# Altium schematic symbol library Diodo.SchLib: 49 symbols (part 2 of 2)
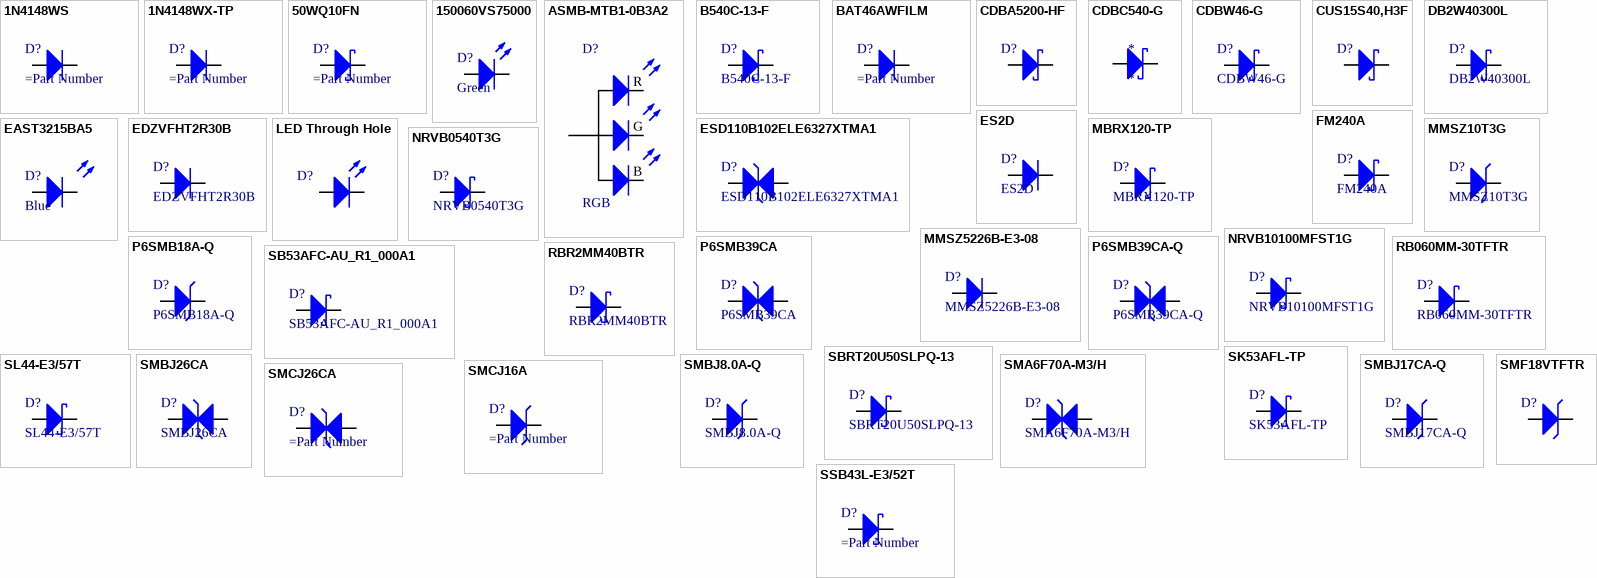
[diagram p2: symbols 1N4148WS to SSB43L-E3/52T]

## SSB43L-E3/52T
designator D?
DIODE SCHOTTKY 30V 4A DO-214AA; Manufacturer: Vishay; Manufacturer Part Number: SSB43L-E3/52T; Pirce: 1=0.54, 10=0.438, 100=0.358 [USD]; Max Forward Surge Current (Ifsm): 100 A; Current - Reverse Leakage @ Vr: 600 uA; Voltage - Forward (Vf) (Max) @ If: 450 mV; Library Control - Checked Footprint: Yes; Library Control - Person that Checked Footprint: Juliana; Supplier 1: Mouser; Category: Schottky Diodes; Package / Case: DO-214AA; Current - Average Rectified (Io): 4 A; Operating Temperature: -65°C ~+150°C; Voltage - DC Reverse (Vr) (Max): 30 V; Diode Type: Schottky; Library Ref: Diode; Supplier Part Number 1: 625-SSB43L-E3; Library Control - Checked Schematic: Yes; Library Control - Last Update: 12/08/2022; Library Control - Person that Checked Schematic: Juliana; Library Control - Person that did the Last Update Footprint: Juliana; Library Control - Person that did the Last Update Schematic: Juliana; Power Dissipation: *; Speed: *; Capacitance @ Vr, F: *; ComponentLink1Description: Mouser Link; ComponentLink1URL: https://br.mouser.com/ProductDetail/Vishay-General-Semiconductor/SSB43L-E3-52T?qs=x2jpVgRnAtN%252BZmsb%252BlLseQ%3D%3D; ComponentLink2Description: Datasheet; ComponentLink2URL: https://br.mouser.com/datasheet/2/427/ssb43l-1767997.pdf
footprint DIODO_DO-214AA
pins: A, C

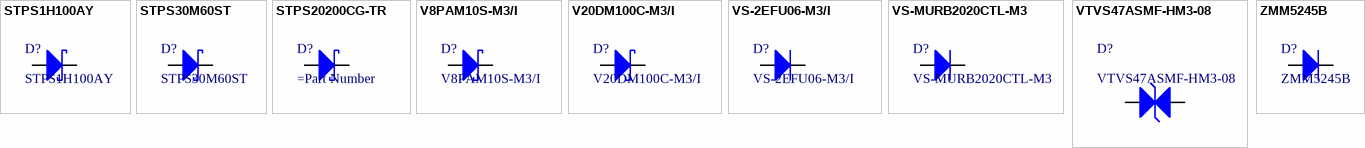
[diagram p1: symbols STPS1H100AY to ZMM5245B]

## STPS1H100AY
designator D?
DIODE SHCOTTKY 100V 1A DO-214AC; Manufacturer: STMicroelectronics; Configuration: Single; Vf - Forward Voltage: 770 mV; Ifsm - Forward Surge Current: 50 A; Ir - Reverse Current: 4 uA; Product Category: Schottky Diodes & Rectifiers; Product: Schottky Rectifiers; Mounting Style: SMD/SMT; Package / Case: SMA (DO-214AC); Technology: Si; If - Forward Current: 1 A; Vrrm - Repetitive Reverse Voltage: 100 V; Minimum Operating Temperature: - 40 C; Maximum Operating Temperature: + 150 C
footprint DIOM5436X24N (Molded Diode, 2-Leads, Body 5,35x3,63mm, IPC Medium Density)
pins: A, C

## STPS30M60ST
designator D?
DIODE SCHOTTKY 60V TO-220-3; Manufacturer: STMicroelectronics; Current - Average Rectified (Io): 90 A; Max Forward Surge Current (Ifsm): 600 A; Current - Reverse Leakage @ Vr: 25 mA; Voltage - Forward (Vf) (Max) @ If: 0,470 V; Diode Type: Schottky Diode; Library Control - Checked Footprint: yes; Library Control - Last Project that Used: Fujin-MK1; Library Control - Person that Checked Footprint: Guilherme; Supplier 1: Mouser; Part Number: STPS30M60ST; Category: Schottky Diodes & Rectifiers; Price: 1 = 1,74, 10 = 1,57, 100 = 1,27 (USD); Package / Case: TO-220-3; Operating Temperature: 150ºC; Voltage - DC Reverse (Vr) (Max): 60 V; Library Ref: Diode; Supplier Part Number 1: 511-STPS30M60ST; Library Control - Checked Schematic: yes; Library Control - Last Update: 31/10/2021 16:48; Library Control - Person that Checked Schematic: Guilherme; Library Control - Person that did the Last Update Footprint: Guilherme; Library Control - Person that did the Last Update Schematic: Guilherme; ComponentLink1Description: Mouser Link; ComponentLink1URL: https://br.mouser.com/ProductDetail/STMicroelectronics/STPS30M60ST?qs=G49gCGQm93g6yOTYlfi6VA%3D%3D; ComponentLink2Description: Datasheet; ComponentLink2URL: https://br.mouser.com/datasheet/2/389/dm00034932-1797540.pdf
footprint TO255P460X1020X2008-3P
pins: A, C

## STPS20200CG-TR
designator D?
DIODE SCHOTTKY 200V 20A D2PAK-2 (TO-263-2); Manufacturer: STMicroelectronics; Manufacturer Part Number: STPS20200CG-TR; Pirce: 1=3.66, 10=3.30, 100=2.70 [USD]; Current - Reverse Leakage @ Vr: 7mA; Voltage - Forward (Vf) (Max) @ If: 640mV; Diode Type: Schottky Diode; Library Control - Checked Footprint: Yes; Library Control - Person that Checked Footprint: Juliana; Supplier 1: Mouser; Category: Schottky Diode; Package / Case: D2PAK-2 (TO-263-2); Current - Average Rectified (Io): 20A; Operating Temperature: -40°C ~ +175°C; Max Forward Surge Current (Ifsm): 20A; Voltage - DC Reverse (Vr) (Max): 200V; Library Ref: Diode; Supplier Part Number 1: 511-STPS20200CG-TR; Library Control - Checked Schematic: Yes; Library Control - Last Update: 10/08/22; Library Control - Person that Checked Schematic: Juliana; Library Control - Person that did the Last Update Footprint: Juliana; Library Control - Person that did the Last Update Schematic: Juliana; Power Dissipation: *; Speed: *; Capacitance @ Vr, F: *; ComponentLink1Description: Mouser Link; ComponentLink1URL: https://www.mouser.com/ProductDetail/STMicroelectronics/STPS20200CG-TR?qs=DqCdCwOw4%2F7dmkq74KoADQ%3D%3D; ComponentLink2Description: Datasheet; ComponentLink2URL: https://www.mouser.com/datasheet/2/389/stps20200c-1851744.pdf
footprint D2PAK-2
pins: A, C

## V8PAM10S-M3/I
designator D?
DIODE SCHOTTKY 100V 8A DO-221BC; Manufacturer: Vishay; Max Forward Surge Current (Ifsm): 90 A; Current - Reverse Leakage @ Vr: 180mA @ 100V; Voltage - Forward (Vf) (Max) @ If: 840mV @ 8A; Library Control - Checked Footprint: Yes; Library Control - Person that Checked Footprint: Lucas; Library Control - Person that did the Last Update Schematic: Stéfany (Ster), Lucas; Capacitance @ Vr, F: 600pF @ 4V, 1MHz; Supplier 1: Mouser; Part Number: V8PAM10S-M3/I; Category: Schottky Diodes & Rectifiers; Price: 1 = 0.43; 10 = 0.372; 100 = 0.278; 500 = 0.218; 1000 = 0.169 (USD); Package / Case: DO-221BC; Current - Average Rectified (Io): 8 A; Operating Temperature: - 40ºC ~ +175ºC; Voltage - DC Reverse (Vr) (Max): 100V; Diode Type: Schottky; Library Ref: Diodo/Led; Supplier Part Number 1: 78-V8PAM10S-M3/I; Recovery Time: -; Library Control - Checked Schematic: Yes; Library Control - Last Update: 23/06/2021 16:00; Library Control - Person that Checked Schematic: Lucas; Library Control - Person that did the Last Update Footprint: -; Power Dissipation: -; Speed: -; ComponentLink1Description: Datasheet; ComponentLink1URL: https://www.vishay.com/docs/87013/v8pam10s.pdf; ComponentLink2Description: Mouser Link; ComponentLink2URL: https://br.mouser.com/ProductDetail/Vishay-General-Semiconductor/V8PAM10S-M3-I?qs=7MVldsJ5UaxN9yrxRnd0cA%3D%3D
footprint DIODO_DO221-BC
pins: A, C

## V20DM100C-M3/I
designator D?
DIODE SCHOTTKY 100V 20A TO-263AC-3; Manufacturer: Vishay; Max Forward Surge Current (Ifsm): 150 A; Current - Reverse Leakage @ Vr: 200 uA @ 100V; Voltage - Forward (Vf) (Max) @ If: 820 mV @ 10A; Library Control - Person that Checked Footprint: Pierre; Capacitance @ Vr, F: 950pF @ 4.0 V, 1 MHz; Supplier 1: Mouser; Part Number: V20DM100C-M3/I; Category: Schottky Diodes & Rectifiers; Price: 1= 1,35, 10= 1,22, 100= 0,947 (USD); Package / Case: TO-263AC-3; Current - Average Rectified (Io): 20 A; Operating Temperature: -40C ~ +175C; Voltage - DC Reverse (Vr) (Max): 100 V; Diode Type: Schottky; Library Ref: Diodo/Led; Supplier Part Number 1: 78-V8PAM10S-M3/I; Recovery Time: -; Library Control - Last Update: 08/09/2021; Power Dissipation: -; Speed: -; ComponentLink1Description: Mouser Link; ComponentLink1URL: https://br.mouser.com/ProductDetail/Vishay-General-Semiconductor/V20DM100C-M3-I?qs=F5EMLAvA7IDlhwdxAC8a8w%3D%3D; ComponentLink2Description: Datasheet; ComponentLink2URL: https://br.mouser.com/datasheet/2/427/VISH_S_A0007978015_1-2570110.pdf
footprint TO-263AC-3 (TO, 3-Pads, Body 7,60x8,46mm (max), IPC Medium Density)
pins: A, C

## VS-2EFU06-M3/I
designator D?
DIODE GEN PURP 200V 100A TO-263AB; Manufacturer: Vishay; Max Forward Surge Current (Ifsm): 2 A; Current - Reverse Leakage @ Vr: 100uA @ 600V; Voltage - Forward (Vf) (Max) @ If: 0.95 V @ 2A; Voltage - DC Reverse (Vr) (Max): 600 V; Diode Type: Retificador; Recovery Time: 42 ns (MAX); Library Control - Checked Footprint: No; Capacitance @ Vr, F: 5 pF @ (Vr = 600V); Supplier 1: Mouser; Part Number: VS-2EFU06-M3/I; Category: Rectifiers; Price: 1 = 1.72; 10 = 1.56; 100 = 1,25; 500 = 1,03 (USD); Package / Case: DO-219AB; Current - Average Rectified (Io): -; Operating Temperature: -55°C ~ +175°C; Library Ref: Diodo/Led; Supplier Part Number 1: 78-VS-2EFU06-M3/I; Library Control - Checked Schematic: No; Library Control - Last Update: 04/03/22 14:00; Library Control - Person that Checked Footprint: -; Library Control - Person that Checked Schematic: -; Library Control - Person that did the Last Update Schematic: -; Power Dissipation: -; Speed: -; ComponentLink1Description: Mouser Link; ComponentLink1URL: https://br.mouser.com/ProductDetail/Vishay-Semiconductors/VS-2EFU06-M3-I?qs=3SS1MhAOHqr4GDKncm%252BAfg%3D%3D; ComponentLink2Description: Datasheet; ComponentLink2URL: https://www.vishay.com/docs/95866/vs-2efu06-m3.pdf
footprint DO-219AB
pins: A, C

## VS-MURB2020CTL-M3
designator D?
DIODE GEN PURP 200V 100A TO-263AB; Manufacturer: Vishay; Current - Average Rectified (Io): 10 A; Current - Reverse Leakage @ Vr: 15uA @ 200V; Voltage - Forward (Vf) (Max) @ If: 0.85 V @ 8A; Diode Type: Retificador; Recovery Time: 35 ns (MAX); Library Control - Checked Footprint: Yes; Library Control - Person that Checked Footprint: Lucas; Library Control - Person that did the Last Update Schematic: Stéfany (Ster); Capacitance @ Vr, F: 55 pF @ (Vr = 200V); Supplier 1: Mouser; Part Number: VS-MURB2020CTL-M3; Category: Rectifiers; Price: 1 = 1.24; 10 = 1.12; 100 = 0.869; 500 = 0.718 (USD); Package / Case: TO-263AB; Operating Temperature: -65°C ~ +175°C; Max Forward Surge Current (Ifsm): 100 A; Voltage - DC Reverse (Vr) (Max): 200 V; Library Ref: Diodo/Led; Supplier Part Number 1: 78-VS-MURB2020CTL-M3; Library Control - Checked Schematic: Yes; Library Control - Last Update: 23/06/2021 17:00; Library Control - Person that Checked Schematic: Lucas; Power Dissipation: -; Speed: -; ComponentLink1Description: Mouser Link; ComponentLink1URL: https://br.mouser.com/ProductDetail/Vishay-Semiconductors/VS-MURB2020CTL-M3?qs=MLItCLRbWsxQT4jbyXQ1Zw%3D%3D; ComponentLink2Description: Datasheet; ComponentLink2URL: https://br.mouser.com/datasheet/2/427/vs-murb2020ct-m3-1769721.pdf
footprint DIODO_TO-263AB
pins: A, C

## VTVS47ASMF-HM3-08
designator D?
DIODE TVS 46.8V 4.7A DO-219AB-2; Manufacturer: Vishay Semiconductors; Diode Element Material: SILICON; Package Body Material: Plastic; Polarity: Unidirectional; Max Breakdown Voltage: 58.8V; Min Breakdown Voltage: 53.2V; Diode Type: TRANS VOLTAGE SUPPRESSOR; Non-rep Peak Rev Power Dis-Max: 400W; Number of Elements: 1; Time @ Peak Reflow Temperature-Max (s): 30s; Reference Standard: AEC-Q101; Supplier: Digikey; Supplier Part Number: 112-VTVS47ASMF-HM3-08CT-ND; Part Number: VTVS47ASMF-HM3-08; RoHS: Yes; Category: TVS Diodes; Stock: 2635; Pricing: 1=0,43, 10=0,288, 100=0,195, 500=0,15166, 1000=0,13728 (USD); Pins: 2; Package Shape: Rectangular; Terminal Finish: Tin; Min Operating Temperature: -55°C; Max Operating Temperature: 175°C; JESD-609 Code: e3; JESD-30 Code: R-PDSO-F2; Moisture Sensitivity Level: 1; Package Style: SMALL OUTLINEMeter; Peak Reflow Temperature (Cel): 260°C; Rep Pk Reverse Voltage-Max: 46.8V; Surface Mount: Yes; Technology: AVALANCHE; Terminal Form: Flat; Terminal Position: DUAL; JEDEC-95 Code: DO-219AB; RoHS Compliant: Yes; Reach SVHC Compliant: No; ComponentLink1URL: https://datasheet.ciiva.com:443/pdfs/VipMasterIC/IC/VISH/VISH-S-A0009354743/VISH-S-A0009354743-1.pdf?src-supplier=IHS+Markit; ComponentLink1Description: https://datasheet.ciiva.com:443/pdfs/VipMasterIC/IC/VISH/VISH-S-A0009354743/VISH-S-A0009354743-1.pdf?src-supplier=IHS+Markit; ComponentLink2URL: https://datasheet.octopart.com/VTVS47ASMF-HM3-08-Vishay-datasheet-78777491.pdf?src-supplier=Newark; ComponentLink2Description: https://datasheet.octopart.com/VTVS47ASMF-HM3-08-Vishay-datasheet-78777491.pdf?src-supplier=Newark; ComponentLink3URL: http://www.vishay.com/docs/85891/vtvs3v3asmf.pdf?src-supplier=Digikey; ComponentLink3Description: http://www.vishay.com/docs/85891/vtvs3v3asmf.pdf?src-supplier=Digikey
footprint DO-219AB
pins: A, C

## ZMM5245B
designator D?
DIODE ZENER 11V 10mA SOD-80C; Manufacturer: Rectron; Current - Reverse Leakage @ Vr: 100 nA @ 11 V; Voltage - Forward (Vf) (Max) @ If: 1.1 V @ 10 mA; Library Control - Checked Footprint: yes; Library Control - Person that Checked Footprint: Lucas; Library Control - Person that did the Last Update Footprint: Stéfany (Ster); Power Dissipation: 500 mW; Supplier 1: Mouser; Part Number: ZMM5245B; Category: Zener Diodes & Rectifiers; Price: 1 = 0,10, 100 = 0.0450 (USD); Package / Case: SOD-80C; Current - Average Rectified (Io): 10 mA; Operating Temperature: - 65 °C ~ 175 °C; Voltage - DC Reverse (Vr) (Max): 11 V; Diode Type: Zener; Library Ref: Diodo/Led; Supplier Part Number 1: 583-ZMM5245B; Library Control - Checked Schematic: yes; Library Control - Last Update: 21/06/2021 13:14; Library Control - Person that Checked Schematic: Lucas; Library Control - Person that did the Last Update Schematic: Lucas; ComponentLink1Description: Mouser Link; ComponentLink1URL: https://br.mouser.com/ProductDetail/Rectron/ZMM5245B?qs=%2Fha2pyFadugBNTNmY1PgjgnzXl4pLsw%2FAf1JNCxeRHzNtDFJovc2hw%3D%3D; ComponentLink2Description: Datasheet; ComponentLink2URL: https://br.mouser.com/datasheet/2/345/zmm52xxb-34158.pdf
footprint DIODO_SOD-80C
pins: A, C